# Altium footprint library GavinPCBLib.PcbLib: 22 footprints (part 1 of 2)
Each footprint in its own frame and in the unit in brackets; x right, y up, seen from the top. Pads: shape width x height; smd on the part's side, far side on the other; paste and mask are expansions set on the pad; w line width, h text height; cw(c..) or ccw(c..) is an arc to the next point about the centre after c.
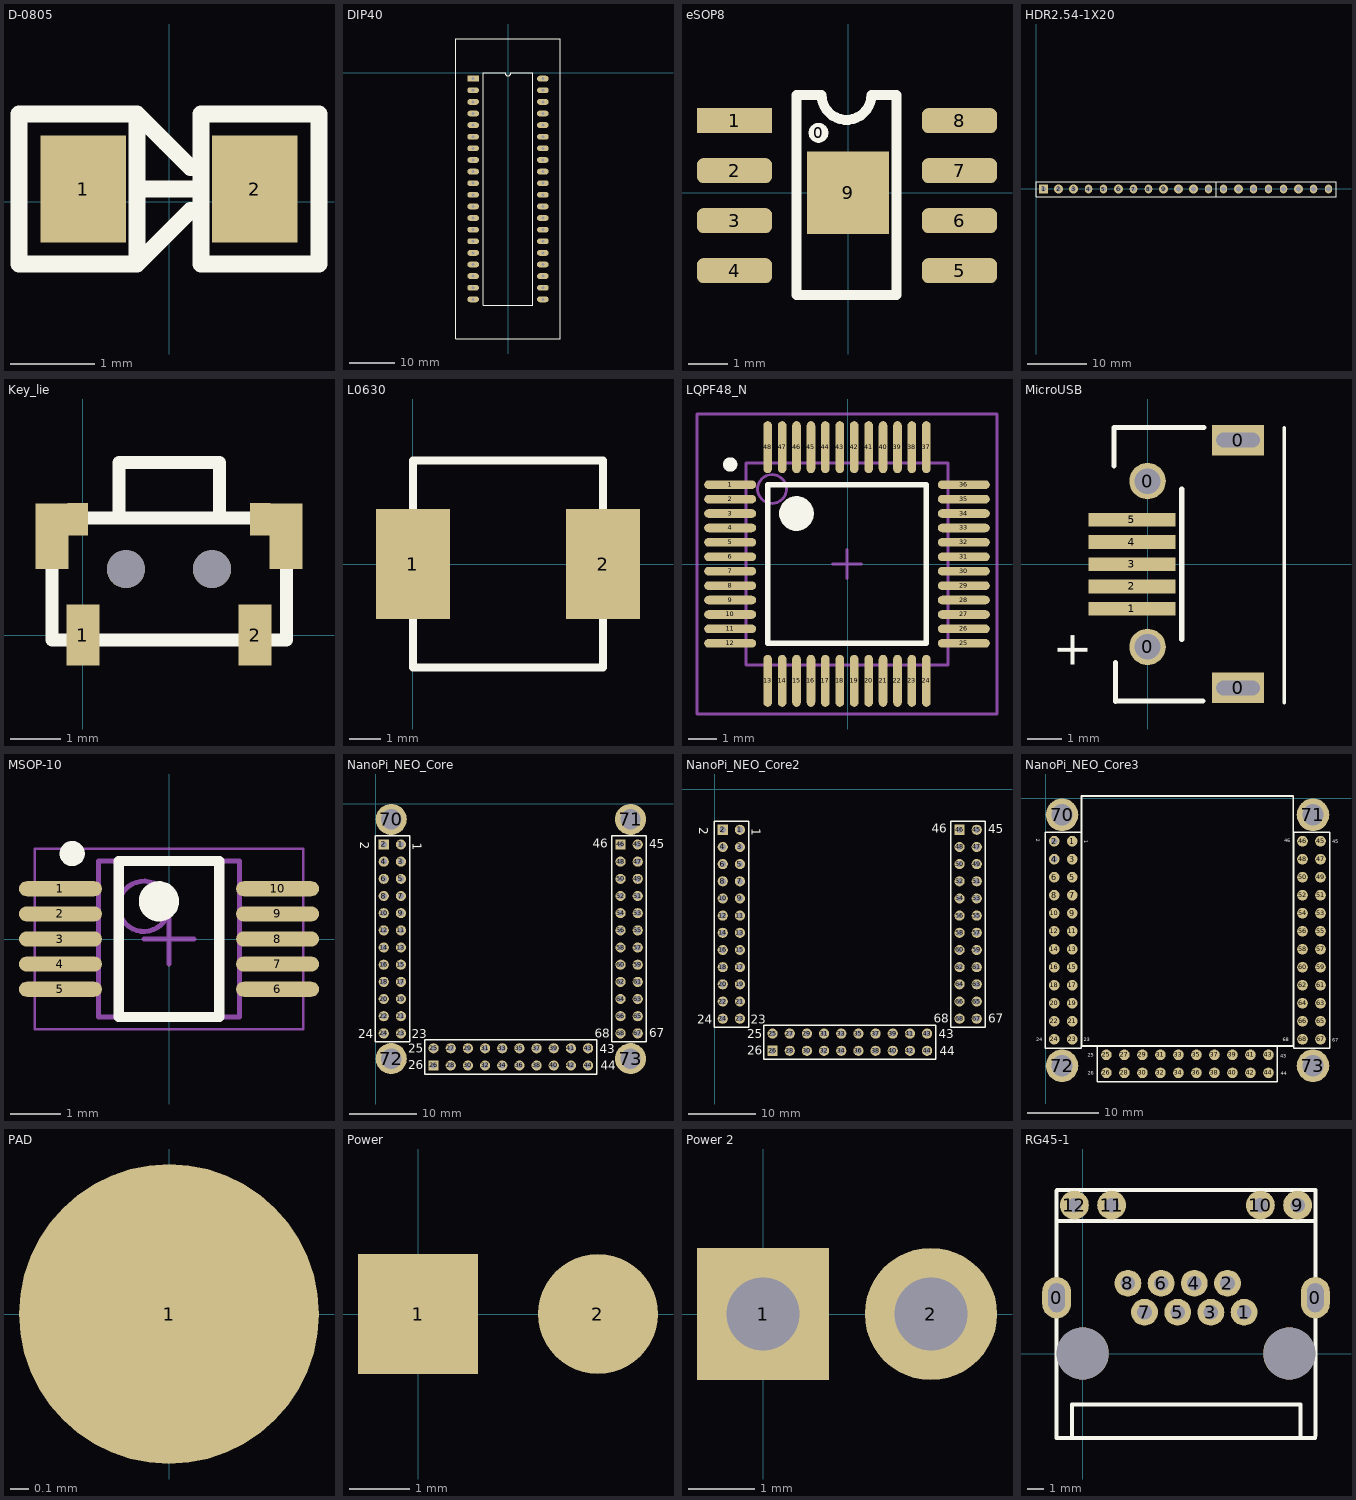
[diagram p0: the footprints below, top view; thin cyan lines are the x and y axes]

## D-0805 [mil]
pads (2):
  rect 40x50 smd: 1(-40,6) 2(40,6)
Top Overlay:
  lines w7.87: -15,6 10,6 ; -8.91,34.91 -8.48,34.48 ; -1.93,27.93 -1.81,27.81 ; 10,-4 -15,-29 ; 10,16 -15,41 ; 15,-4 15,11 15,6 ; -15,-29 -15,41 ; -15,-29 -70,-29 -70,41 -15,41 ; 15,-29 15,41 70,41 70,-29 15,-29
3D body "LED SMD0805.step": height 33.45, standoff 0.23, extent -40.2,-10.84 41,24.84

## DIP40 [mil]
pads (40):
  rect 100x50 hole 25: 1(-300,-50)
  oval 100x50 hole 25: 2(-300,-150) 3(-300,-250) 4(-300,-350) 5(-300,-450) 6(-300,-550) 7(-300,-650) 8(-300,-750) 9(-300,-850) 10(-300,-950) 11(-300,-1050) 12(-300,-1150) 13(-300,-1250) 14(-300,-1350) 15(-300,-1450) 16(-300,-1550) 17(-300,-1650) 18(-300,-1750) 19(-300,-1850) 20(-300,-1950) 21(300,-1950) 22(300,-1850) 23(300,-1750) 24(300,-1650) 25(300,-1550) 26(300,-1450) 27(300,-1350) 28(300,-1250) 29(300,-1150) 30(300,-1050) 31(300,-950) 32(300,-850) 33(300,-750) 34(300,-650) 35(300,-550) 36(300,-450) 37(300,-350) 38(300,-250) 39(300,-150) 40(300,-50)
Top Overlay:
  lines w10: -450.79,-2291.34 -450.79,291.34 450.79,291.34 450.79,-2291.34 -450.79,-2291.34 ; -215,-2000 215,-2000 215,0 25,0 cw(c0,0) -25,0 -215,0 -215,-2000

## eSOP8 [mil]
pads (10):
  round 20 on Top Overlay: 0(-29.5,59.8)
  rect 75x25 smd: 1(-113.5,72)
  rrect50% 75x25 smd: 2(-113.5,22) 3(-113.5,-28) 4(-113.5,-78) 5(111.5,-78) 6(111.5,-28) 7(111.5,22) 8(111.5,72)
  rect 82.28x82.28 smd: 9(0,0)
Top Overlay:
  lines w10: -29.5,97.8 -51.5,97.8 -51.5,-102.2 48.5,-102.2 48.5,97.8 23.5,97.8 cw(c-1.5,97.8) -26.5,97.8
3D body "SO-8.STEP": height -15, standoff -81.93, extent -119.1,-99.46 117.12,93.46

## HDR2.54-1X20 [mm]
pads (20):
  rect 1.5x1.5 hole 0.9: 1(1.27,0)
  round 1.5 hole 0.9: 2(3.81,0) 3(6.35,0) 6(13.97,0) 9(21.59,0) 10(24.13,0) 11(26.67,0) 14(34.29,0) 18(44.45,0)
  oval 1.27x1.5 hole 0.9: 4(8.89,0) 5(11.43,0) 7(16.51,0) 8(19.05,0) 12(29.21,0) 13(31.75,0) 15(36.83,0) 16(39.37,0) 17(41.91,0) 19(46.99,0) 20(49.53,0)
Top Overlay:
  lines w0: 30.556,-1.27 30.556,1.27
  lines w0.2: 30.48,-1.27 50.8,-1.27 50.8,1.27 30.48,1.27 ; 40.64,-1.27 20.32,-1.27 0,-1.27 0,1.27 20.32,1.27 40.64,1.27
3D body "8 pin strip.STEP": height 0.7, standoff -10.9, extent 30.48,-1.27 50.8,1.27
3D body "8 pin strip.STEP": height 0.7, standoff -10.9, extent 20.32,-1.27 40.64,1.27
3D body "8 pin strip.STEP": height 0.7, standoff -10.9, extent 0,-1.27 20.32,1.27

## Key_lie [mm]
pads (8):
  rect 0.65x1.2 smd: 1(0,0) 2(3.4,0)
  rect 0.65x1.3 smd: ""(-0.61,1.95) ""(4.013,1.95)
  rect 0.4x0.65 smd: ""(-0.102,2.286) ""(3.505,2.286)
  round 0.75 hole 0.75: ""(0.85,1.3) ""(2.55,1.3)
Top Overlay:
  lines w0.254: 4.023,-0.076 4.023,2.311 2.896,2.311 2.702,2.311 ; 4.025,-0.1 -0.61,-0.1 -0.61,2.311 0.533,2.311 ; 0.533,2.311 2.702,2.311 ; 0.533,2.311 0.711,2.311 0.711,3.404 2.697,3.404 2.697,2.316 2.702,2.311

## L0630 [mm]
pads (2):
  rect 2.35x3.5 smd: 1(0,0) 2(6.05,0)
Top Overlay:
  lines w0.254: 0,-3.298 0,3.302 6.05,3.302 6.05,-3.298 0,-3.298

## LQPF48_N [mm]
pads (48):
  oval 1.8x0.3 smd: 1(-4.075,2.75) 2(-4.075,2.25) 3(-4.075,1.75) 4(-4.075,1.25) 5(-4.075,0.75) 6(-4.075,0.25) 7(-4.075,-0.25) 8(-4.075,-0.75) 9(-4.075,-1.25) 10(-4.075,-1.75) 11(-4.075,-2.25) 12(-4.075,-2.75) 25(4.025,-2.75) 26(4.025,-2.25) 27(4.025,-1.75) 28(4.025,-1.25) 29(4.025,-0.75) 30(4.025,-0.25) 31(4.025,0.25) 32(4.025,0.75) 33(4.025,1.25) 34(4.025,1.75) 35(4.025,2.25) 36(4.025,2.75)
  oval 0.3x1.8 smd: 13(-2.775,-4.05) 14(-2.275,-4.05) 15(-1.775,-4.05) 16(-1.275,-4.05) 17(-0.775,-4.05) 18(-0.275,-4.05) 19(0.225,-4.05) 20(0.725,-4.05) 21(1.225,-4.05) 22(1.725,-4.05) 23(2.225,-4.05) 24(2.725,-4.05) 37(2.725,4.05) 38(2.225,4.05) 39(1.725,4.05) 40(1.225,4.05) 41(0.725,4.05) 42(0.225,4.05) 43(-0.275,4.05) 44(-0.775,4.05) 45(-1.275,4.05) 46(-1.775,4.05) 47(-2.275,4.05) 48(-2.775,4.05)
Top Overlay:
  circle w0.25: c-4.075,3.45 r0.125
  circle w0.6: c-1.775,1.75 r0.3
  lines w0.2: -2.775,-2.75 -2.775,2.75 2.725,2.75 2.725,-2.75 -2.775,-2.75
Mechanical 13:
  circle w0.1: c-2.625,2.6 r0.5
  lines w0.1: -3.525,-3.5 -3.525,3.5 3.475,3.5 3.475,-3.5 -3.525,-3.5
Mechanical 15:
  lines w0.1: -0.525,0 0.475,0 ; -0.025,-0.5 -0.025,0.5 ; -5.225,-5.2 -5.225,5.2 5.175,5.2 5.175,-5.2 -5.225,-5.2

## MicroUSB [mil]
pads (9):
  round 42 hole 29.53 unplated: 0(0,-95.47) 0(0,95.47)
  rect 60x35 hole 17 slot 50 at 0 deg: 0(104.33,-142.72) 0(104.33,142.72)
  rect 100x15.75 smd: 1(-18,-51.47) 2(-18,-25.87) 3(-18,-0.28) 4(-18,25.31) 5(-18,50.9)
Top Overlay:
  lines w3.94: 157.61,-159.73 157.61,157.2
  lines w6: -38.5,113 -38.5,157.33 ; -37,-158 -37,-113.67 ; -36,-157.76 63.74,-157.76 ; -36,157.2 65.09,157.2 ; 39.5,-86.9 39.5,86.33
  text "+" at -69,-122 h39.37

## MSOP-10 [mil]
pads (10):
  oval 65x11.81 smd: 1(-85,39.37) 2(-85,19.69) 3(-85,0) 4(-85,-19.68) 5(-85,-39.37) 6(85,-39.37) 7(85,-19.68) 8(85,0) 9(85,19.69) 10(85,39.37)
Top Overlay:
  circle w15.75: c-7.87,29.53 r7.87
  circle w9.84: c-75.79,66.93 r4.92
  lines w7.87: -39.37,-61.02 39.37,-61.02 39.37,61.02 -39.37,61.02 -39.37,-61.02
Mechanical 13:
  circle w3.94: c-19.68,25.59 r19.68
  lines w3.94: -55.12,-61.02 55.12,-61.02 55.12,61.02 -55.12,61.02 -55.12,-61.02
Mechanical 15:
  lines w1.97: -105.31,-70.87 105.31,-70.87 105.31,70.87 -105.31,70.87 -105.31,-70.87
  lines w3.94: -19.68,0 19.68,0 ; 0,-19.68 0,19.69
3D body: height 78.74, standoff 3.94, extent -55.12,-61.02 55.12,61.02

## NanoPi_NEO_Core [mm]
pads (72):
  round 1.5 hole 0.9: 1(3.734,-6.02) 3(3.734,-8.56) 4(1.194,-8.56) 5(3.734,-11.1) 6(1.194,-11.1) 7(3.734,-13.64) 8(1.194,-13.64) 9(3.734,-16.18) 10(1.194,-16.18) 11(3.734,-18.72) 12(1.194,-18.72) 13(3.734,-21.26) 14(1.194,-21.26) 15(3.734,-23.8) 16(1.194,-23.8) 17(3.734,-26.34) 18(1.194,-26.34) 19(3.734,-28.88) 20(1.194,-28.88) 21(3.734,-31.42) 22(1.194,-31.42) 23(3.734,-33.96) 24(1.194,-33.96) 25(8.56,-36.17) 27(11.1,-36.17) 28(11.1,-38.71) 29(13.64,-36.17) 30(13.64,-38.71) 31(16.18,-36.17) 32(16.18,-38.71) 33(18.72,-36.17) 34(18.72,-38.71) 35(21.26,-36.17) 36(21.26,-38.71) 37(23.8,-36.17) 38(23.8,-38.71) 39(26.34,-36.17) 40(26.34,-38.71) 41(28.88,-36.17) 42(28.88,-38.71) 43(31.42,-36.17) 44(31.42,-38.71) 45(38.76,-6.02) 47(38.76,-8.56) 48(36.22,-8.56) 49(38.76,-11.1) 50(36.22,-11.1) 51(38.76,-13.64) 52(36.22,-13.64) 53(38.76,-16.18) 54(36.22,-16.18) 55(38.76,-18.72) 56(36.22,-18.72) 57(38.76,-21.26) 58(36.22,-21.26) 59(38.76,-23.8) 60(36.22,-23.8) 61(38.76,-26.34) 62(36.22,-26.34) 63(38.76,-28.88) 64(36.22,-28.88) 65(38.76,-31.42) 66(36.22,-31.42) 67(38.76,-33.96) 68(36.22,-33.96)
  rect 1.5x1.5 hole 0.9: 2(1.194,-6.02) 26(8.56,-38.71) 46(36.22,-6.02)
  round 4.6 hole 3: 70(2.3,-2.3) 71(37.7,-2.3) 72(2.3,-37.7) 73(37.7,-37.7)
Top Overlay:
  lines w0.2: -0.076,-35.23 5.004,-35.23 5.004,-4.75 -0.076,-4.75 -0.076,-35.23 ; 7.29,-39.98 9.195,-39.98 32.69,-39.98 32.69,-34.9 9.195,-34.9 7.29,-34.9 7.29,-39.98 ; 34.95,-35.23 34.95,-4.75 40.03,-4.75 40.03,-35.23 34.95,-35.23
  text "67" at 40.437,-34.544 h1.27
  text "68" at 32.385,-34.595 h1.27
  text "45" at 40.488,-6.553 h1.27
  text "46" at 32.131,-6.477 h1.27
  text "43" at 33.122,-36.881 h1.27
  text "44" at 33.274,-39.37 h1.27
  text "26" at 4.801,-39.268 h1.27
  text "25" at 4.801,-36.83 h1.27
  text "2" at -2.286,-5.639 h1.27
  text "1" at 5.461,-5.766 h1.27
  text "24" at -2.616,-34.696 h1.27
  text "23" at 5.334,-34.696 h1.27

## NanoPi_NEO_Core2 [mm]
pads (68):
  round 1.5 hole 0.9: 1(3.734,-6.02) 3(3.734,-8.56) 4(1.194,-8.56) 5(3.734,-11.1) 6(1.194,-11.1) 7(3.734,-13.64) 8(1.194,-13.64) 9(3.734,-16.18) 10(1.194,-16.18) 11(3.734,-18.72) 12(1.194,-18.72) 13(3.734,-21.26) 14(1.194,-21.26) 15(3.734,-23.8) 16(1.194,-23.8) 17(3.734,-26.34) 18(1.194,-26.34) 19(3.734,-28.88) 20(1.194,-28.88) 21(3.734,-31.42) 22(1.194,-31.42) 23(3.734,-33.96) 24(1.194,-33.96) 25(8.56,-36.17) 27(11.1,-36.17) 28(11.1,-38.71) 29(13.64,-36.17) 30(13.64,-38.71) 31(16.18,-36.17) 32(16.18,-38.71) 33(18.72,-36.17) 34(18.72,-38.71) 35(21.26,-36.17) 36(21.26,-38.71) 37(23.8,-36.17) 38(23.8,-38.71) 39(26.34,-36.17) 40(26.34,-38.71) 41(28.88,-36.17) 42(28.88,-38.71) 43(31.42,-36.17) 44(31.42,-38.71) 45(38.76,-6.02) 47(38.76,-8.56) 48(36.22,-8.56) 49(38.76,-11.1) 50(36.22,-11.1) 51(38.76,-13.64) 52(36.22,-13.64) 53(38.76,-16.18) 54(36.22,-16.18) 55(38.76,-18.72) 56(36.22,-18.72) 57(38.76,-21.26) 58(36.22,-21.26) 59(38.76,-23.8) 60(36.22,-23.8) 61(38.76,-26.34) 62(36.22,-26.34) 63(38.76,-28.88) 64(36.22,-28.88) 65(38.76,-31.42) 66(36.22,-31.42) 67(38.76,-33.96) 68(36.22,-33.96)
  rect 1.5x1.5 hole 0.9: 2(1.194,-6.02) 26(8.56,-38.71) 46(36.22,-6.02)
Top Overlay:
  lines w0.2: -0.076,-35.23 5.004,-35.23 5.004,-4.75 -0.076,-4.75 -0.076,-35.23 ; 7.29,-39.98 9.195,-39.98 32.69,-39.98 32.69,-34.9 9.195,-34.9 7.29,-34.9 7.29,-39.98 ; 34.95,-35.23 34.95,-4.75 40.03,-4.75 40.03,-35.23 34.95,-35.23
  text "67" at 40.437,-34.544 h1.27
  text "68" at 32.385,-34.595 h1.27
  text "45" at 40.488,-6.553 h1.27
  text "46" at 32.131,-6.477 h1.27
  text "43" at 33.122,-36.881 h1.27
  text "44" at 33.274,-39.37 h1.27
  text "26" at 4.801,-39.268 h1.27
  text "25" at 4.801,-36.83 h1.27
  text "2" at -2.286,-5.639 h1.27
  text "1" at 5.461,-5.766 h1.27
  text "24" at -2.616,-34.696 h1.27
  text "23" at 5.334,-34.696 h1.27

## NanoPi_NEO_Core3 [mm]
pads (72):
  round 1.5 smd: 1(3.734,-6.02) 3(3.734,-8.56) 5(3.734,-11.1) 6(1.194,-11.1) 7(3.734,-13.64) 8(1.194,-13.64) 9(3.734,-16.18) 10(1.194,-16.18) 11(3.734,-18.72) 12(1.194,-18.72) 13(3.734,-21.26) 14(1.194,-21.26) 15(3.734,-23.8) 16(1.194,-23.8) 17(3.734,-26.34) 18(1.194,-26.34) 19(3.734,-28.88) 20(1.194,-28.88) 21(3.734,-31.42) 22(1.194,-31.42) 23(3.734,-33.96) 24(1.194,-33.96) 25(8.56,-36.17) 26(8.56,-38.71) 27(11.1,-36.17) 28(11.1,-38.71) 29(13.64,-36.17) 30(13.64,-38.71) 31(16.18,-36.17) 32(16.18,-38.71) 33(18.72,-36.17) 34(18.72,-38.71) 35(21.26,-36.17) 36(21.26,-38.71) 37(23.8,-36.17) 38(23.8,-38.71) 39(26.34,-36.17) 40(26.34,-38.71) 41(28.88,-36.17) 42(28.88,-38.71) 43(31.42,-36.17) 44(31.42,-38.71) 45(38.76,-6.02) 46(36.22,-6.02) 47(38.76,-8.56) 48(36.22,-8.56) 49(38.76,-11.1) 50(36.22,-11.1) 51(38.76,-13.64) 52(36.22,-13.64) 53(38.76,-16.18) 54(36.22,-16.18) 55(38.76,-18.72) 56(36.22,-18.72) 57(38.76,-21.26) 58(36.22,-21.26) 59(38.76,-23.8) 60(36.22,-23.8) 61(38.76,-26.34) 62(36.22,-26.34) 63(38.76,-28.88) 64(36.22,-28.88) 65(38.76,-31.42) 66(36.22,-31.42) 67(38.76,-33.96) 68(36.22,-33.96)
  round 1.5 hole 0.9: 2(1.194,-6.02) 4(1.194,-8.56)
  round 4.6 hole 3: 70(2.3,-2.3) 71(37.7,-2.3) 72(2.3,-37.7) 73(37.7,-37.7)
Top Overlay:
  lines w0.2: -0.076,-35.23 -0.076,-4.75 5.004,-4.75 5.004,-35.23 -0.076,-35.23 ; 7.29,-39.98 7.29,-34.9 9.195,-34.9 32.69,-34.9 32.69,-39.98 9.195,-39.98 7.29,-39.98 ; 34.95,-35.23 40.03,-35.23 40.03,-4.75 34.95,-4.75 34.95,-35.23
  lines w0.254: 5.055,0.356 5.055,-34.9 34.925,-34.9 ; 5.055,0.356 5.055,0.356 ; 5.055,0.356 34.925,0.356 34.925,-34.9 ; 34.925,-34.9 34.925,-34.9
  text "46" at 33.655,-6.198 h0.51
  text "23" at 5.359,-34.239 h0.51
  text "24" at -1.372,-34.265 h0.51
  text "1" at 5.461,-5.893 h0.51
  text "2" at -1.321,-5.715 h0.51
  text "25" at 5.918,-36.449 h0.51
  text "26" at 5.944,-38.989 h0.51
  text "44" at 33.172,-39.04 h0.51
  text "43" at 33.096,-36.551 h0.51
  text "45" at 40.411,-6.299 h0.51
  text "68" at 33.401,-34.265 h0.51
  text "67" at 40.437,-34.29 h0.51

## PAD [mm]
pads (1):
  round 1.6 smd: 1(0,0)

## Power [mm]
pads (2):
  rect 2x2 smd: 1(0,0)
  round 2 smd: 2(3,0)

## Power 2 [mm]
pads (2):
  rect 2x2 hole 1.1: 1(0,0)
  round 2 hole 1.1: 2(2.54,0)

## RG45-1 [mm]
pads (16):
  oval 1.778x2.54 hole 1.778 slot 1.016 at 0 deg: 0(-1.6,3.43) 0(14.3,3.43)
  round 1.651 hole 0.9: 1(9.92,2.54) 2(8.9,4.32) 3(7.88,2.54) 4(6.86,4.32) 5(5.84,2.54) 6(4.82,4.32) 7(3.8,2.54) 8(2.78,4.32)
  round 1.778 hole 0.9: 9(13.21,9.12) 10(10.92,9.12) 11(1.78,9.12) 12(-0.51,9.12)
  round 3.2 hole 3.2: ""(0,0) ""(12.7,0)
Top Overlay:
  lines w0.254: -1.575,8.153 14.249,8.153 ; -0.66,-5.131 -0.66,-3.124 13.386,-3.124 13.386,-5.182 ; 14.275,-5.2 -1.582,-5.2 -1.6,-5.182 -1.6,10.008 -1.575,10.008 -1.575,10.058 14.3,10.058 14.3,-5.055
3D body "RJ45-8P-Pipe-Cat6.step": height 14.55, standoff -3.6, extent -2.45,-5.328 15.15,18.672